# Altium footprint library 未分类器件.PcbLib: 29 footprints (part 1 of 2)
Each footprint in its own frame and in the unit in brackets; x right, y up, seen from the top. Pads: shape width x height; smd on the part's side, far side on the other; paste and mask are expansions set on the pad; w line width, h text height; cw(c..) or ccw(c..) is an arc to the next point about the centre after c.
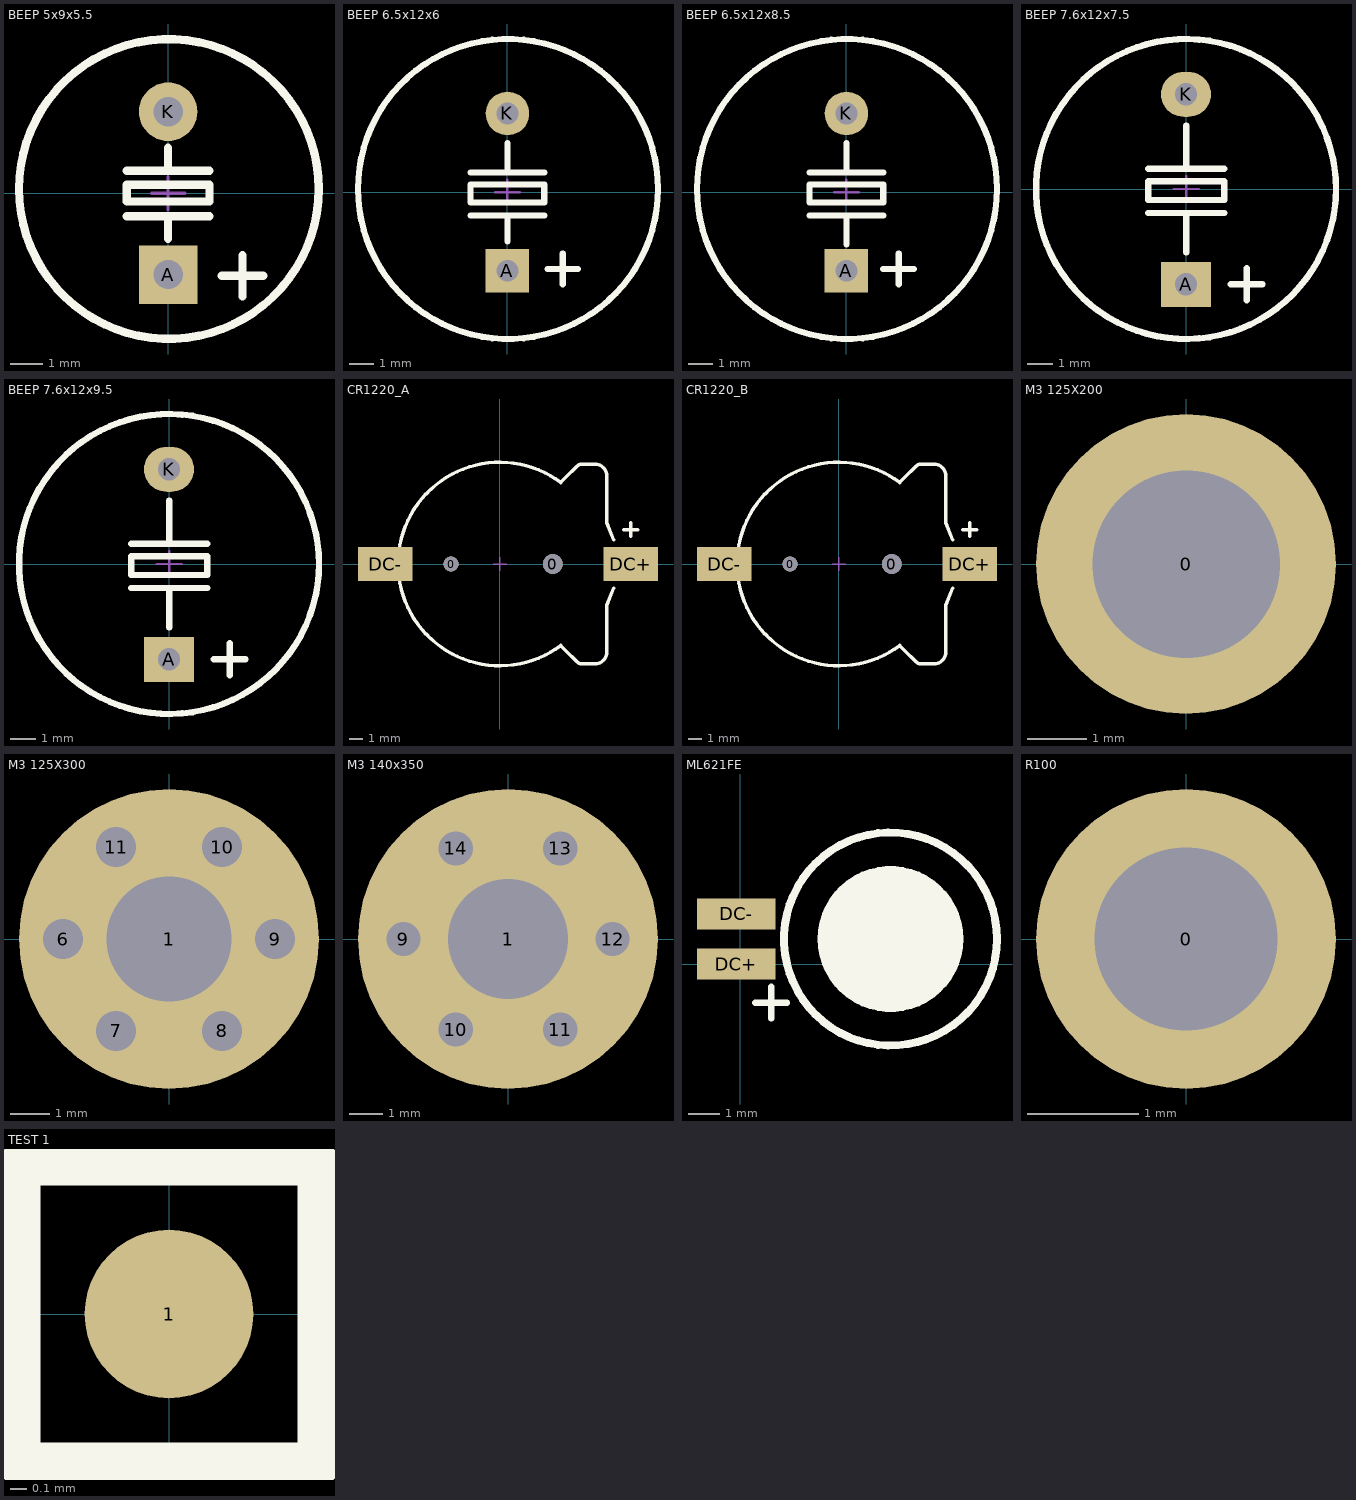
[diagram p0: the footprints below, top view; thin cyan lines are the x and y axes]

## BEEP 5x9x5.5 [mm] "5*9*5.5mm(脚距,直径,高度)"
pads (2):
  rect 1.8x1.8 hole 0.9: A(0,-2.5)
  round 1.8 hole 0.9: K(0,2.5)
Top Overlay:
  circle w0.254: c0.023,0.127 r4.6
  lines w0.254: -1.27,-0.709 1.27,-0.709 ; -1.27,0.685 1.27,0.685 ; 0,-1.397 0,-0.709 ; 0,0.812 0,1.397 ; 1.651,-2.54 2.921,-2.54 ; 2.286,-3.175 2.286,-1.905 ; -1.27,-0.254 1.27,-0.254 1.27,0.254 -1.27,0.254 -1.27,-0.254
Bottom Overlay:
  circle w0.254: c0.032,0.127 r4.6
  lines w0.254: 1.651,-2.54 2.921,-2.54 ; 2.286,-3.175 2.286,-1.905
Mechanical 15:
  lines w0.1: -0.508,0 0.508,0 ; 0,-0.508 0,0.508
3D body "BEEP 5x9x5.5.STEP": height 5.55, standoff -3.55, extent -4.5,-5.573 4.5,4.5

## BEEP 6.5x12x6 [mm] "6.5*12*6mm(脚距,直径,高度)"
pads (2):
  rect 1.8x1.8 hole 0.9: A(0,-3.25)
  round 1.8 hole 0.9: K(0,3.25)
Top Overlay:
  circle w0.254: c0.023,0.127 r6.2
  lines w0.254: -1.524,-0.963 1.524,-0.963 ; -1.524,0.812 1.524,0.812 ; 0,-2.032 0,-0.963 ; 0,0.812 0,2.032 ; 1.651,-3.175 2.921,-3.175 ; 2.286,-3.81 2.286,-2.54 ; -1.524,-0.438 -1.524,0.312 1.524,0.312 1.524,-0.438 -1.524,-0.438
Bottom Overlay:
  circle w0.254: c0.032,0.127 r6.165
  lines w0.254: 1.651,-3.175 2.921,-3.175 ; 2.286,-3.81 2.286,-2.54
Mechanical 15:
  lines w0.1: -0.508,0 0.508,0 ; 0,-0.508 0,0.508
3D body "BEEP 6.5x12x6.STEP": height 6.15, standoff -3.25, extent -6,-7.583 6,6

## BEEP 6.5x12x8.5 [mm] "6.5*12*8.5mm(脚距,直径,高度)"
pads (2):
  rect 1.8x1.8 hole 0.9: A(0,-3.25)
  round 1.8 hole 0.9: K(0,3.25)
Top Overlay:
  circle w0.254: c0.023,0.127 r6.2
  lines w0.254: -1.524,-0.963 1.524,-0.963 ; -1.524,0.812 1.524,0.812 ; 0,-2.159 0,-0.963 ; 0,0.812 0,2.032 ; 1.524,-3.175 2.794,-3.175 ; 2.159,-3.81 2.159,-2.54 ; -1.524,-0.438 1.524,-0.438 1.524,0.312 -1.524,0.312 -1.524,-0.438
Bottom Overlay:
  circle w0.254: c0.032,0.127 r6.165
  lines w0.254: 1.524,-3.175 2.794,-3.175 ; 2.159,-3.81 2.159,-2.54
Mechanical 15:
  lines w0.1: -0.508,0 0.508,0 ; 0,-0.508 0,0.508
3D body "BEEP 6.5x12x8.5.STEP": height 8.55, standoff -3.25, extent -6,-7.583 6,6

## BEEP 7.6x12x7.5 [mm] "6.5*12*7.5mm(脚距,直径,高度)"
height 9.398
pads (2):
  rect 2x1.8 hole 0.9: A(-0.011,-3.811)
  oval 2x1.8 hole 0.9: K(-0.011,3.789)
Top Overlay:
  circle w0.254: c-0.011,0 r6.001
  lines w0.254: -1.524,-0.963 1.524,-0.963 ; -1.524,0.812 1.524,0.812 ; 0,-2.54 0,-0.963 ; 0,0.812 0,2.54 ; 1.778,-3.81 3.048,-3.81 ; 2.413,-4.445 2.413,-3.175 ; -1.524,-0.438 1.524,-0.438 1.524,0.312 -1.524,0.312 -1.524,-0.438
Bottom Overlay:
  circle w0.254: c-0.011,0 r6.001
  lines w0.254: 1.778,-3.81 3.048,-3.81 ; 2.413,-4.445 2.413,-3.175
Mechanical 15:
  lines w0.1: -0.508,0 0.508,0 ; 0,-0.508 0,0.508
3D body "BEEP 7.6x12x7.5.STEP": height 7.55, standoff -3.25, extent -6.011,-7.511 5.989,6.072

## BEEP 7.6x12x9.5 [mm] "6.5*12*9.5mm(脚距,直径,高度)"
height 9.398
pads (2):
  rect 2x1.8 hole 0.9: A(-0.011,-3.811)
  oval 2x1.8 hole 0.9: K(-0.011,3.789)
Top Overlay:
  circle w0.254: c-0.011,0 r6.001
  lines w0.254: -1.524,-0.963 1.524,-0.963 ; -1.524,0.812 1.524,0.812 ; 0,-2.54 0,-0.963 ; 0,0.812 0,2.54 ; 1.778,-3.81 3.048,-3.81 ; 2.413,-4.445 2.413,-3.175 ; -1.524,-0.438 -1.524,0.312 1.524,0.312 1.524,-0.438 -1.524,-0.438
Bottom Overlay:
  circle w0.254: c-0.011,0 r6.001
  lines w0.254: 1.778,-3.81 3.048,-3.81 ; 2.413,-4.445 2.413,-3.175
Mechanical 15:
  lines w0.1: -0.508,0 0.508,0 ; 0,-0.508 0,0.508
3D body "BEEP 7.6x12x9.5.STEP": height 9.55, standoff -3.25, extent -6.011,-7.511 5.989,6.072

## CR1220_A [mm] "纽扣电池座"
pads (4):
  round 1.1 hole 1.1: 0(-3.6,0)
  round 1.45 hole 1.45: 0(3.9,0)
  rect 4x2.5 smd: DC+(9.652,0) DC-(-8.458,0)
Top Overlay:
  lines w0.254: 4.5,-6 cw(c0,0) 4.5,6 ; 4.572,-6.096 4.826,-6.35 5.662,-7.186 ccw(c6.096,-6.753) 6.096,-7.366 7.007,-7.366 ccw(c7.007,-6.499) 7.874,-6.499 7.874,-3.048 8.382,-1.778 ; 4.572,6.096 4.826,6.35 5.662,7.186 cw(c6.096,6.753) 6.096,7.366 7.007,7.366 cw(c7.007,6.499) 7.874,6.499 7.874,3.048 8.382,1.778 ; 9.144,2.54 10.16,2.54 ; 9.652,2.032 9.652,3.048
Mechanical 15:
  lines w0.1: -0.508,0 0.508,0 ; 0,-0.508 0,0.508
3D body "CR1220_A.STEP": height 4.05, standoff -0.85, extent -9.416,-7.45 10.34,7.45

## CR1220_B [mm] "纽扣电池座"
pads (4):
  round 1.1 hole 1.1: 0(-3.6,0)
  round 1.45 hole 1.45: 0(3.9,0)
  rect 4x2.5 smd: DC+(9.652,0) DC-(-8.458,0)
Top Overlay:
  lines w0.254: 4.5,-6 cw(c0,0) 4.5,6 ; 4.572,-6.096 4.826,-6.35 5.662,-7.186 ccw(c6.096,-6.753) 6.096,-7.366 7.007,-7.366 ccw(c7.007,-6.499) 7.874,-6.499 7.874,-3.048 8.382,-1.778 ; 4.572,6.096 4.826,6.35 5.662,7.186 cw(c6.096,6.753) 6.096,7.366 7.007,7.366 cw(c7.007,6.499) 7.874,6.499 7.874,3.048 8.382,1.778 ; 9.144,2.54 10.16,2.54 ; 9.652,2.032 9.652,3.048
Mechanical 15:
  lines w0.1: -0.508,0 0.508,0 ; 0,-0.508 0,0.508
3D body "CR1220_B.STEP": height 4.05, standoff -0.85, extent -9.416,-7.45 10.34,7.45

## HD-1 [mm]
3D body "User Library-Heat Sink 6400BG.STEP": height 65, standoff -3, extent -19.417,-13.172 22.583,12.228

## HD-2 [mm]
3D body "User Library-heat sink-1.STEP": height 30.62, standoff 0, extent -12.521,-9.68 10.379,6.72

## HD-3 [mm]
3D body "User Library-Heatsink-52AS.STEP": height 25, standoff 0, extent -13.737,-7.252 13.263,5.748

## M3 125X200 [mm] "M3螺丝孔，孔125Mil，焊盘200Mil"
pads (1):
  round 5.08 hole 3.175: 0(0,0)

## M3 125X300 [mil] "M3螺丝孔，孔125Mil，焊盘300Mil"
pads (7):
  round 300 hole 125: 1(0,0)
  round 40 hole 40: 6(-106,0) 7(-53,-91.8) 8(53,-91.8) 9(106,0) 10(53,91.8) 11(-53,91.8)

## M3 140x350 [mil] "M3螺丝孔，孔140Mil，焊盘350Mil"
pads (7):
  round 350 hole 140: 1(0,0)
  round 35 hole 40: 9(-122,0) 10(-61,-105.66) 11(61,-105.66) 12(122,0) 13(61,105.66) 14(-61,105.66)

## ML621FE [mm] "可充电纽扣电池"
pads (2):
  rect 2.5x1 smd: DC+(-0.127,0) DC-(-0.127,1.6)
Top Overlay:
  circle w0.254: c4.8,0.8 r3.4
  circle w0.254: c4.8,0.8 r2.2
  circle w2.2: c4.8,0.8 r1.024
  lines w0.203: 0.482,-1.232 1.498,-1.232 ; 0.99,-1.74 0.99,-0.724
Mechanical 15:
  lines w0.1: 4.292,0.8 5.308,0.8 ; 4.8,0.292 4.8,1.308
3D body "ML621FE.STEP": height 2.45, standoff 0.04, extent -0.7,-2.598 8.198,4.198

## R100 [mm] "R100探针焊盘"
pads (1):
  round 2.7 hole 1.651: 0(0,0)

## TEST 1 [mm] "测试点1mm"
pads (1):
  round 1 smd: 1(0,0)
Top Overlay:
  lines w0.254: -0.889,-0.889 0.889,-0.889 0.889,0.889 -0.889,0.889 -0.889,-0.889